# EAGLE library part LMP7721 (library di_ic)
National Semiconductor - LMP7721 - 3 Femtoampere Input Bias Current Precision Amplifier. http://www.national.com/ds/LM/LMP7721.pdf
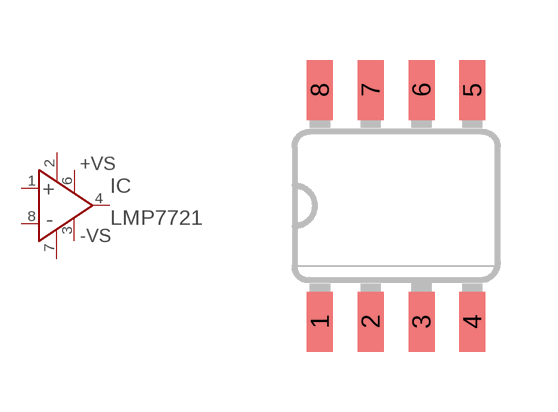
[diagram p53: symbol with the pads of SO08N; footprint SO08N]

Designator prefix IC

## LMP7721 (DIGIKEY: LMP7721MA-ND)  [SO08N]
1  IN+  in
2  GUARD  pas
3  -VS  in
4  OUT  out
6  +VS  in
7  GUARD  pas
8  IN-  in

## Footprint SO08N (pad centres in mm)
smd 0.65 x 1.5: 1 -1.905,-2.9; 2 -0.635,-2.9; 3 0.635,-2.9; 4 1.905,-2.9; 5 1.905,2.9; 6 0.635,2.9; 7 -0.635,2.9; 8 -1.905,2.9